# Altium schematic symbol library RF IC.SchLib: 15 symbols
Pins are listed as number, name and electrical type; pins without a type are passive.

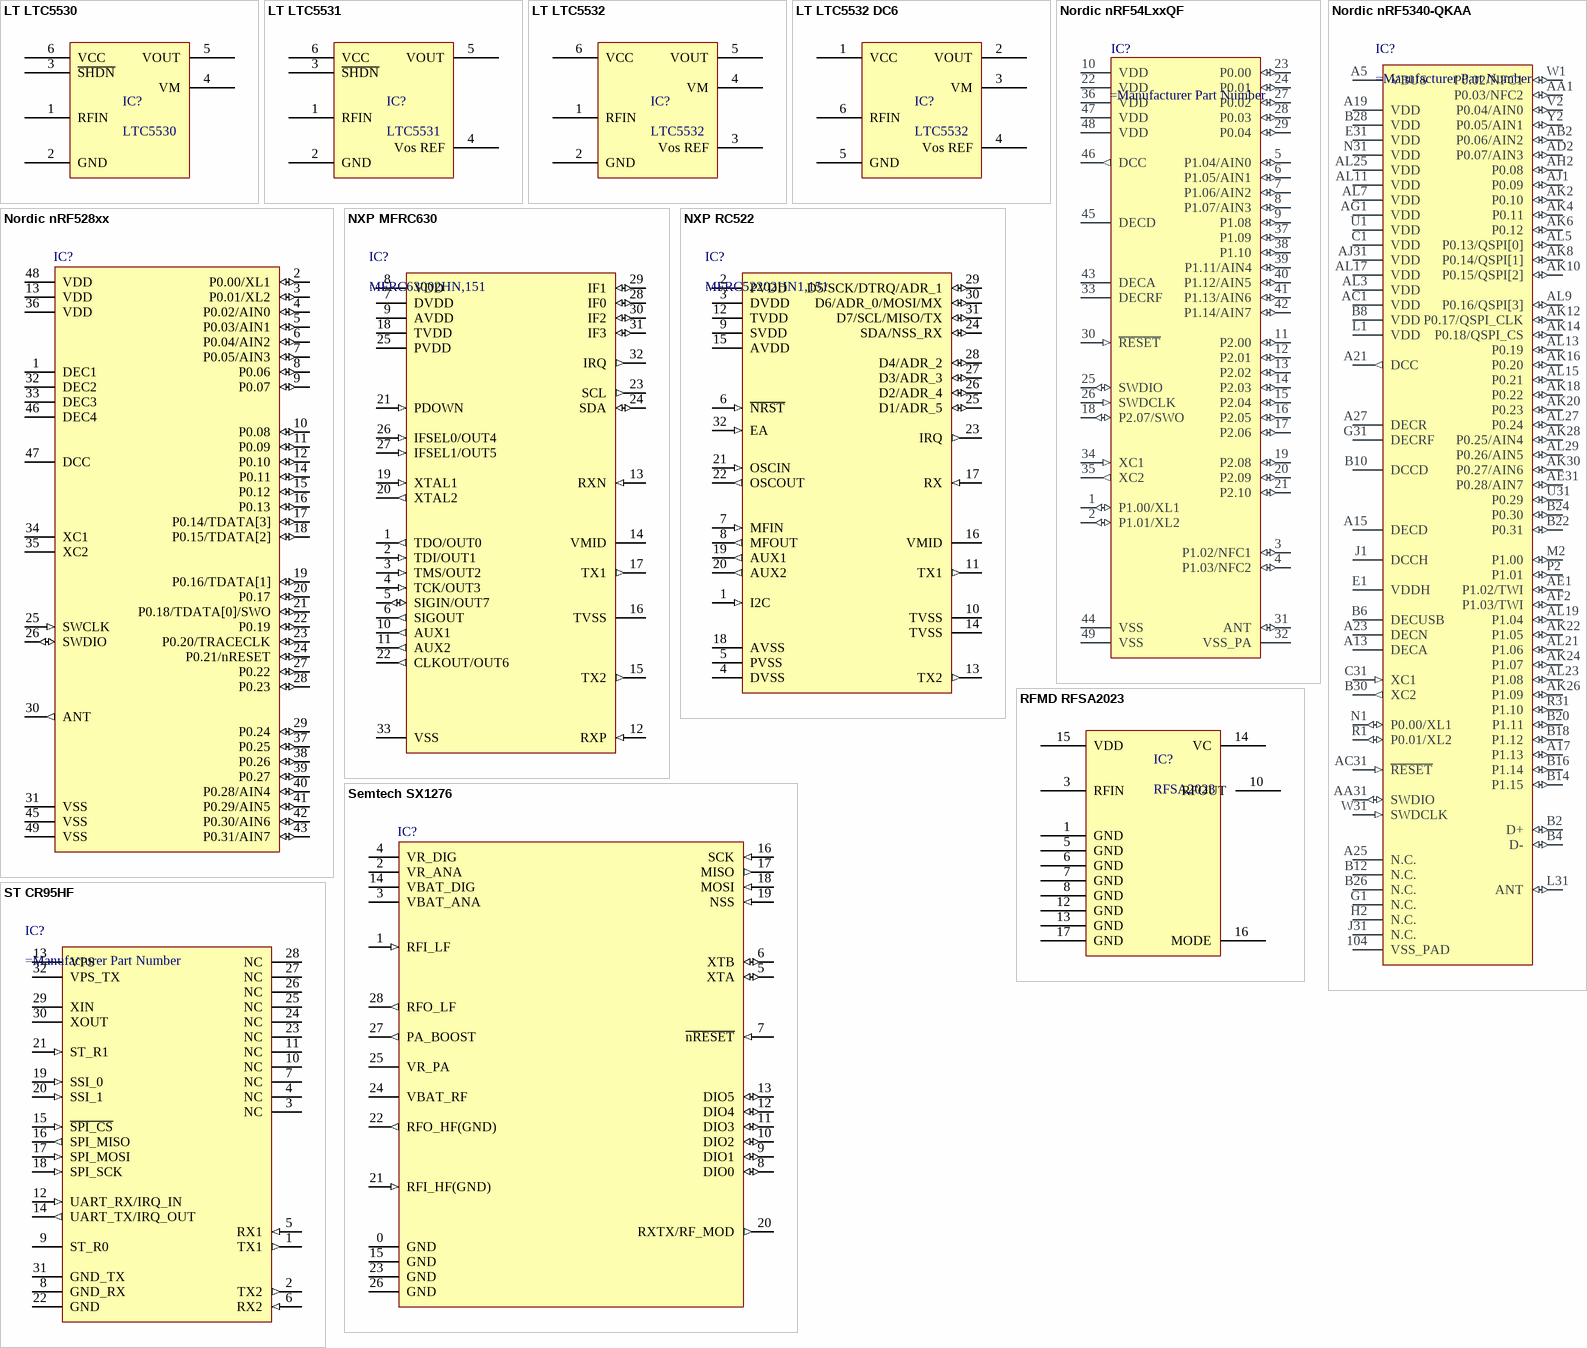
[diagram p0: symbols LT LTC5530 to ST CR95HF]

## LT LTC5530
designator IC?, comment LTC5530
Precision 300MHz to 7GHz  RF Detector with Shutdown  and Gain Adjustment
pins: 1 RFIN, 2 GND, 3 ~{SHDN}, 4 VM, 5 VOUT, 6 VCC

## LT LTC5531
designator IC?, comment LTC5531
Precision 300MHz to 7GHz  RF Detector with Shutdown  and Offset Adjustment
pins: 1 RFIN, 2 GND, 3 ~{SHDN}, 4 Vos REF, 5 VOUT, 6 VCC

## LT LTC5532
designator IC?, comment LTC5532
Precision 300MHz to 7GHz  RF Detector with Shutdown  and Gain Adjustment
pins: 1 RFIN, 2 GND, 3 Vos REF, 4 VM, 5 VOUT, 6 VCC

## LT LTC5532 DC6
designator IC?, comment LTC5532
Precision 300MHz to 7GHz  RF Detector with Shutdown  and Gain Adjustment
pins: 1 VCC, 2 VOUT, 3 VM, 4 Vos REF, 5 GND, 6 RFIN

## Nordic nRF54LxxQF
designator IC?
nRF54L15, nRF54L10, and nRF54L05 Wireless SoCs
footprint Nordic QFN48 6x6mm (NORDIC QFN-48 6x6MM)
pins: 1 P1.00/XL1 (io), 2 P1.01/XL2 (io), 3 P1.02/NFC1 (io), 4 P1.03/NFC2 (io), 5 P1.04/AIN0 (io), 6 P1.05/AIN1 (io), 7 P1.06/AIN2 (io), 8 P1.07/AIN3 (io), 9 P1.08 (io), 10 VDD (power), 11 P2.00 (io), 12 P2.01 (io), 13 P2.02 (io), 14 P2.03 (io), 15 P2.04 (io), 16 P2.05 (io), 17 P2.06 (io), 18 P2.07/SWO (io), 19 P2.08 (io), 20 P2.09 (io), 21 P2.10 (io), 22 VDD (power), 23 P0.00 (io), 24 P0.01 (io), 25 SWDIO (io), 26 SWDCLK (in), 27 P0.02 (io), 28 P0.03 (io), 29 P0.04 (io), 30 ~{RESET} (in), 31 ANT (io), 32 VSS_PA (power), 33 DECRF (power), 34 XC1 (in), 35 XC2 (out), 36 VDD (power), 37 P1.09 (io), 38 P1.10 (io), 39 P1.11/AIN4 (io), 40 P1.12/AIN5 (io), 41 P1.13/AIN6 (io), 42 P1.14/AIN7 (io), 43 DECA (power), 44 VSS (power), 45 DECD (power), 46 DCC (out), 47 VDD (power), 48 VDD (power), 49 VSS (power)

## Nordic nRF528xx
designator IC?
footprint QFN40P600X600X90-48N (NORDIC QFN-48 6x6MM)
pins: 1 DEC1 (power), 2 P0.00/XL1 (io), 3 P0.01/XL2 (io), 4 P0.02/AIN0 (io), 5 P0.03/AIN1 (io), 6 P0.04/AIN2 (io), 7 P0.05/AIN3 (io), 8 P0.06 (io), 9 P0.07 (io), 10 P0.08 (io), 11 P0.09 (io), 12 P0.10 (io), 13 VDD (power), 14 P0.11 (io), 15 P0.12 (io), 16 P0.13 (io), 17 P0.14/TDATA[3] (io), 18 P0.15/TDATA[2] (io), 19 P0.16/TDATA[1] (io), 20 P0.17 (io), 21 P0.18/TDATA[0]/SWO (io), 22 P0.19 (io), 23 P0.20/TRACECLK (io), 24 P0.21/nRESET (io), 25 SWCLK (in), 26 SWDIO (io), 27 P0.22 (io), 28 P0.23 (io), 29 P0.24 (io), 30 ANT (out), 31 VSS (power), 32 DEC2 (power), 33 DEC3 (power), 34 XC1 (power), 35 XC2, 36 VDD (power), 37 P0.25 (io), 38 P0.26 (io), 39 P0.27 (io), 40 P0.28/AIN4 (io), 41 P0.29/AIN5 (io), 42 P0.30/AIN6 (io), 43 P0.31/AIN7 (io), 44 NC hidden, 45 VSS (power), 46 DEC4 (power), 47 DCC (power), 48 VDD (power), 49 VSS (power)

## Nordic nRF5340-QKAA
designator IC?
footprint Nordic AQFN40P700X700X85 HS-99N (AQFN, 98-Leads, Body 7.00x7.00mm, Pitch 0.40mm, Thermal Pad 5.4x5.0mm, IPC Medium Density)
pins: 104 VSS_PAD (power), A5 VBUS (power), A13 DECA (power), A15 DECD (power), A17 P1.13 (io), A19 VDD (power), A21 DCC (out), A23 DECN (power), A25 N.C., A27 DECR (power), AA1 P0.03/NFC2 (io), AA31 SWDIO (io), AB2 P0.06/AIN2 (io), AC1 VDD (power), AC31 ~{RESET} (in), AD2 P0.07/AIN3 (io), AE1 P1.02/TWI (io), AE31 P0.28/AIN7 (io), AF2 P1.03/TWI (io), AG1 VDD (power), AH2 P0.08 (io), AJ1 P0.09 (io), AJ31 VDD (power), AK2 P0.10 (io), AK4 P0.11 (io), AK6 P0.12 (io), AK8 P0.14/QSPI[1] (io), AK10 P0.15/QSPI[2] (io), AK12 P0.17/QSPI_CLK (io), AK14 P0.18/QSPI_CS (io), AK16 P0.20 (io), AK18 P0.22 (io), AK20 P0.23 (io), AK22 P1.05 (io), AK24 P1.07 (io), AK26 P1.09 (io), AK28 P0.25/AIN4 (io), AK30 P0.27/AIN6 (io), AL3 VDD (power), AL5 P0.13/QSPI[0] (io), AL7 VDD (power), AL9 P0.16/QSPI[3] (io), AL11 VDD (power), AL13 P0.19 (io), AL15 P0.21 (io), AL17 VDD (power), AL19 P1.04 (io), AL21 P1.06 (io), AL23 P1.08 (io), AL25 VDD (power), AL27 P0.24 (io), AL29 P0.26/AIN5 (io), B2 D+ (io), B4 D- (io), B6 DECUSB (power), B8 VDD (power), B10 DCCD (power), B12 N.C., B14 P1.15 (io), B16 P1.14 (io), B18 P1.12 (io), B20 P1.11 (io), B22 P0.31 (io), B24 P0.30 (io), B26 N.C., B28 VDD (power), B30 XC2 (out), C1 VDD (power), C31 XC1 (in), E1 VDDH (power), E31 VDD (power), G1 N.C., G31 DECRF (power), H2 N.C., J1 DCCH (power), J31 N.C., L1 VDD (power), L31 ANT (io), M2 P1.00 (io), N1 P0.00/XL1 (io), N31 VDD (power), P2 P1.01 (io), R1 P0.01/XL2 (io), R31 P1.10 (io), U1 VDD (power), U31 P0.29 (io), V2 P0.04/AIN0 (io), W1 P0.02/NFC1 (io), W31 SWDCLK (in), Y2 P0.05/AIN1 (io)

## NXP MFRC630
designator IC?, comment MFRC63002HN,151
MFRC630 and MFRC630 plus: High-performance frontend for  MIFARE and NTAG products; Manufacturer: NXP USA Inc.; Frequency: 13.56MHz; Standards: ISO 14443, MIFARE; Interface: I²C, SPI, UART; Voltage - Supply: 3 V ~ 5.5 V; SPN: 568-11530-ND; Supplier 1: Digi-Key; MPN: MFRC63002HN,151; RoHS: RoHS Compliant; Category: RF/IF and RFID; Stock 1: 2403; Pricing 1: 1=4.93, 10=4.4, 25=3.96, 490=3.256, 980=2.64, 1470=2.464 (USD); Packaging: Tray; Part Status: Active; Type: RFID Reader; Operating Temperature: -25°C ~ 85°C; Package / Case: 32-VFQFN Exposed Pad; Supplier Device Package: 32-HVQFN (5x5); ComponentLink1URL: https://www.nxp.com/docs/en/data-sheet/MFRC630.pdf; ComponentLink1Description: https://www.nxp.com/docs/en/data-sheet/MFRC630.pdf
footprint NXP HVQFN-33 5x5mm (QFN, 32-Leads, Body 5.00x5.00mm, Pitch 0.50mm, Thermal Pad 3.75x3.75mm, IPC Medium Density)
pins: 1 TDO/OUT0 (out), 2 TDI/OUT1 (in), 3 TMS/OUT2 (in), 4 TCK/OUT3 (in), 5 SIGIN/OUT7 (io), 6 SIGOUT (out), 7 DVDD (power), 8 VDD (power), 9 AVDD (power), 10 AUX1 (out), 11 AUX2 (out), 12 RXP (in), 13 RXN (in), 14 VMID (power), 15 TX2 (out), 16 TVSS (power), 17 TX1 (out), 18 TVDD (power), 19 XTAL1 (in), 20 XTAL2 (out), 21 PDOWN (in), 22 CLKOUT/OUT6 (out), 23 SCL (out), 24 SDA (io), 25 PVDD (power), 26 IFSEL0/OUT4 (in), 27 IFSEL1/OUT5 (in), 28 IF0 (io), 29 IF1 (io), 30 IF2 (io), 31 IF3 (io), 32 IRQ (out), 33 VSS (power)

## NXP RC522
designator IC?, comment MFRC52202HN1,151
The MFRC522 is a highly integrated reader/writer IC for contactless communication  at 13.56 MHz. The MFRC522 reader supports ISO/IEC 14443 A/MIFARE and NTAG.; Manufacturer: NXP USA Inc.; Standards: ISO 14443, MIFARE; Interface: I²C, SPI, UART; Voltage - Supply: 2.5 V ~ 3.3 V; SPN: 568-8603-ND; Supplier 1: Digi-Key; MPN: MFRC52202HN1,151; RoHS: RoHS Compliant; Category: RF/IF and RFID; Stock 1: 2847; Pricing 1: 1=6.23, 10=5.559, 25=5.0028, 100=4.558, 250=4.11336, 500=3.6909, 1000=3.1128 (USD); Packaging: Tray; Part Status: Active; Type: RFID Reader; Frequency: 13.56MHz; Operating Temperature: -25°C ~ 85°C; Package / Case: 32-VFQFN Exposed Pad; Supplier Device Package: 32-HVQFN (5x5); ComponentLink1URL: https://media.digikey.com/pdf/Data%20Sheets/NXP%20PDFs/MFRC522.pdf; ComponentLink1Description: https://media.digikey.com/pdf/Data%20Sheets/NXP%20PDFs/MFRC522.pdf; Price: 6,23
footprint NXP HVQFN32 5x5mm SOT617-3 (HVQFN, 32-Leads, Body 5.00x5.00mm, Pitch 0.50mm, IPC Medium Density)
pins: 1 I2C (in), 2 PVDD (power), 3 DVDD (power), 4 DVSS (power), 5 PVSS (power), 6 ~{NRST} (in), 7 MFIN (in), 8 MFOUT (out), 9 SVDD (power), 10 TVSS (power), 11 TX1 (out), 12 TVDD (power), 13 TX2 (out), 14 TVSS (power), 15 AVDD (power), 16 VMID (power), 17 RX (in), 18 AVSS (power), 19 AUX1 (out), 20 AUX2 (out), 21 OSCIN (in), 22 OSCOUT (out), 23 IRQ (out), 24 SDA/NSS_RX (io), 25 D1/ADR_5 (io), 26 D2/ADR_4 (io), 27 D3/ADR_3 (io), 28 D4/ADR_2 (io), 29 D5/SCK/DTRQ/ADR_1 (io), 30 D6/ADR_0/MOSI/MX (io), 31 D7/SCL/MISO/TX (io), 32 EA (in)

## RFMD RFSA2023
designator IC?, comment RFSA2023
VOLTAGE CONTROLLED ATTENUATOR
pins: 1 GND, 3 RFIN, 5 GND, 6 GND, 7 GND, 8 GND, 10 RFOUT, 12 GND, 13 GND, 14 VC, 15 VDD, 16 MODE, 17 GND

## Semtech SX1276
designator IC?, comment SX1276IMLTRT
The SX1276/77/78/79 transceivers feature the LoRaTM long  range modem that provides ultra-long range spread  spectrum communication and high interference immunity  whilst minimising current consumption.; Manufacturer: Semtech Corporation; Satıcı: Digikey; Birim Fiyat: 8,06; SPN: SX1276IMLTRTCT-ND; Modulation: FSK, GFSK, GMSK, MSK, OOK; Frequency: 137MHz ~ 1.02GHz; Sensitivity: -148dBm; Power Output: 20dBm; Data Rate: 300kbps; Current Receiving: 10.8mA ~ 12mA; Voltage Supply: 1.8 - 3.6 V; Current Transmitting: 20mA ~ 120mA; Protocol: LoRa™; Serial Interfaces: SPI; GPIO: 6; Depo Kodu: *; Package / Case: 28-VQFN Exposed Pad; Satın Alma Linki: https://www.digikey.com/product-detail/en/semtech-corporation/SX1276IMLTRT/SX1276IMLTRTCT-ND/4259551; Datasheet: http://www.semtech.com/images/datasheet/sx1276_77_78_79.pdf; RF Family/Standard: 802.15.4; Operating Temperature: -40°C ~ 85°C; Type: TxRx Only; Series: *; Packaging: Cut Tape (CT); MPN: SX1276IMLTRT
footprint SEMTECH VQFN28_6x6mm (28 Leads, Body 6.0x6.0mm, Pitch 0.65mm, VQFN28)
pins: 0 GND (power) "GND EXPOSED PIN", 1 RFI_LF (in) "RF input for bands 2&3", 2 VR_ANA (power) "Regulated supply voltage for analogue circuitry", 3 VBAT_ANA (power) "Supply voltage for analogue circuitry", 4 VR_DIG (power) "Regulated supply voltage for digital blocks", 5 XTA (io) "XTAL connection or TCXO input", 6 XTB (io) "XTAL connection", 7 ~{nRESET} (in) "Reset trigger input", 8 DIO0 (io) "Digital I/O, software configured", 9 DIO1 (io) "Digital I/O, software configured", 10 DIO2 (io) "Digital I/O, software configured", 11 DIO3 (io) "Digital I/O, software configured", 12 DIO4 (io) "Digital I/O, software configured", 13 DIO5 (io) "Digital I/O, software configured", 14 VBAT_DIG (power) "Supply voltage for digital blocks", 15 GND (power) "Ground", 16 SCK (in) "SPI Clock input", 17 MISO (out) "SPI Data output", 18 MOSI (in) "SPI Data input", 19 NSS (in) "SPI Chip select input", 20 RXTX/RF_MOD (out) "Rx/Tx switch control: high in Tx", 21 RFI_HF(GND) (in) "RF input for band 1 (Ground)", 22 RFO_HF(GND) (out) "RF output for band 1 (Ground)", 23 GND (power), 24 VBAT_RF (power) "Supply voltage for RF blocks", 25 VR_PA (power) "Regulated supply for the PA", 26 GND (power), 27 PA_BOOST (out) "Optional high-power PA output, all frequency bands", 28 RFO_LF (out) "RF output for bands 2&3"

## ST CR95HF
designator IC?
13.56-MHz multi-protocol contactless transceiver IC / with SPI and UART serial access
footprint ST VFQFN-33 5x5mm (QFN, 32-Leads, Body 5.00x5.00mm, Pitch 0.50mm, Thermal Pad 3.6x3.6mm, IPC Medium Density)
pins: 1 TX1 (out), 2 TX2 (out), 3 NC, 4 NC, 5 RX1 (in), 6 RX2 (in), 7 NC, 8 GND_RX (power), 9 ST_R0, 10 NC, 11 NC, 12 UART_RX/IRQ_IN (in), 13 VPS (power), 14 UART_TX/IRQ_OUT (out), 15 ~{SPI_CS} (in), 16 SPI_MISO (out), 17 SPI_MOSI (in), 18 SPI_SCK (in), 19 SSI_0 (in), 20 SSI_1 (in), 21 ST_R1 (in), 22 GND (power), 23 NC, 24 NC, 25 NC, 26 NC, 27 NC, 28 NC, 29 XIN, 30 XOUT, 31 GND_TX (power), 32 VPS_TX (power)

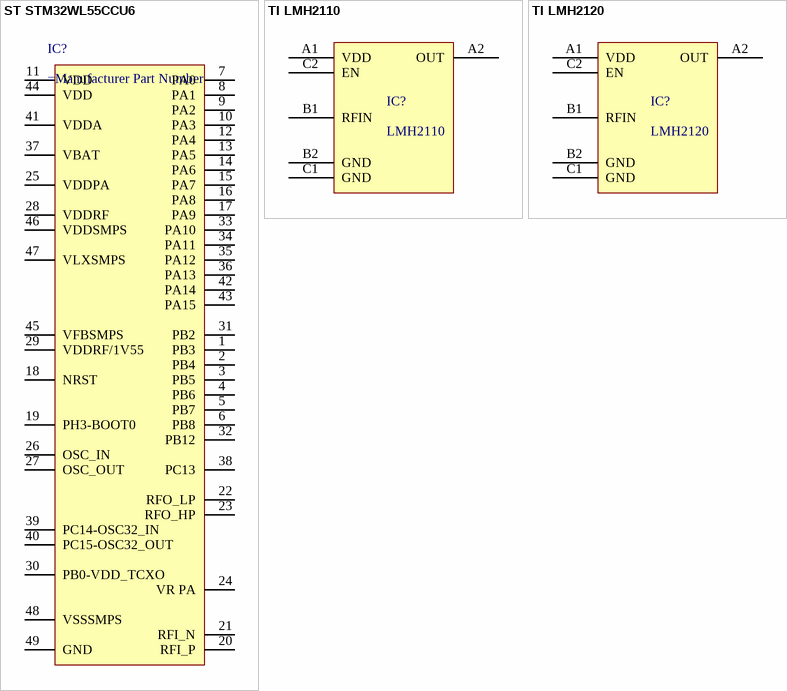
[diagram p1: symbols ST STM32WL55CCU6 to TI LMH2120]

## ST STM32WL55CCU6
designator IC?
Integrated Circuit
footprint ST QFN-49-7x7mm
pins: 1 PB3, 2 PB4, 3 PB5, 4 PB6, 5 PB7, 6 PB8, 7 PA0, 8 PA1, 9 PA2, 10 PA3, 11 VDD, 12 PA4, 13 PA5, 14 PA6, 15 PA7, 16 PA8, 17 PA9, 18 NRST, 19 PH3-BOOT0, 20 RFI_P, 21 RFI_N, 22 RFO_LP, 23 RFO_HP, 24 VR PA, 25 VDDPA, 26 OSC_IN, 27 OSC_OUT, 28 VDDRF, 29 VDDRF/1V55, 30 PB0-VDD_TCXO, 31 PB2, 32 PB12, 33 PA10, 34 PA11, 35 PA12, 36 PA13, 37 VBAT, 38 PC13, 39 PC14-OSC32_IN, 40 PC15-OSC32_OUT, 41 VDDA, 42 PA14, 43 PA15, 44 VDD, 45 VFBSMPS, 46 VDDSMPS, 47 VLXSMPS, 48 VSSSMPS, 49 GND

## TI LMH2110
designator IC?, comment LMH2110
LMH2110 8-GHz Logarithmic RMS Power Detector with 45-dB Dynamic Range
pins: A1 VDD, A2 OUT, B1 RFIN, B2 GND, C1 GND, C2 EN

## TI LMH2120
designator IC?, comment LMH2120
LMH2120 6 GHz Linear RMS Power Detector with 40 dB Dynamic Range
pins: A1 VDD, A2 OUT, B1 RFIN, B2 GND, C1 GND, C2 EN